# Altium footprint library Chip_kz85.PcbLib: 314 footprints (part 18 of 20)
Each footprint in its own frame and in the unit in brackets; x right, y up, seen from the top. Pads: shape width x height; smd on the part's side, far side on the other; paste and mask are expansions set on the pad; w line width, h text height; cw(c..) or ccw(c..) is an arc to the next point about the centre after c.
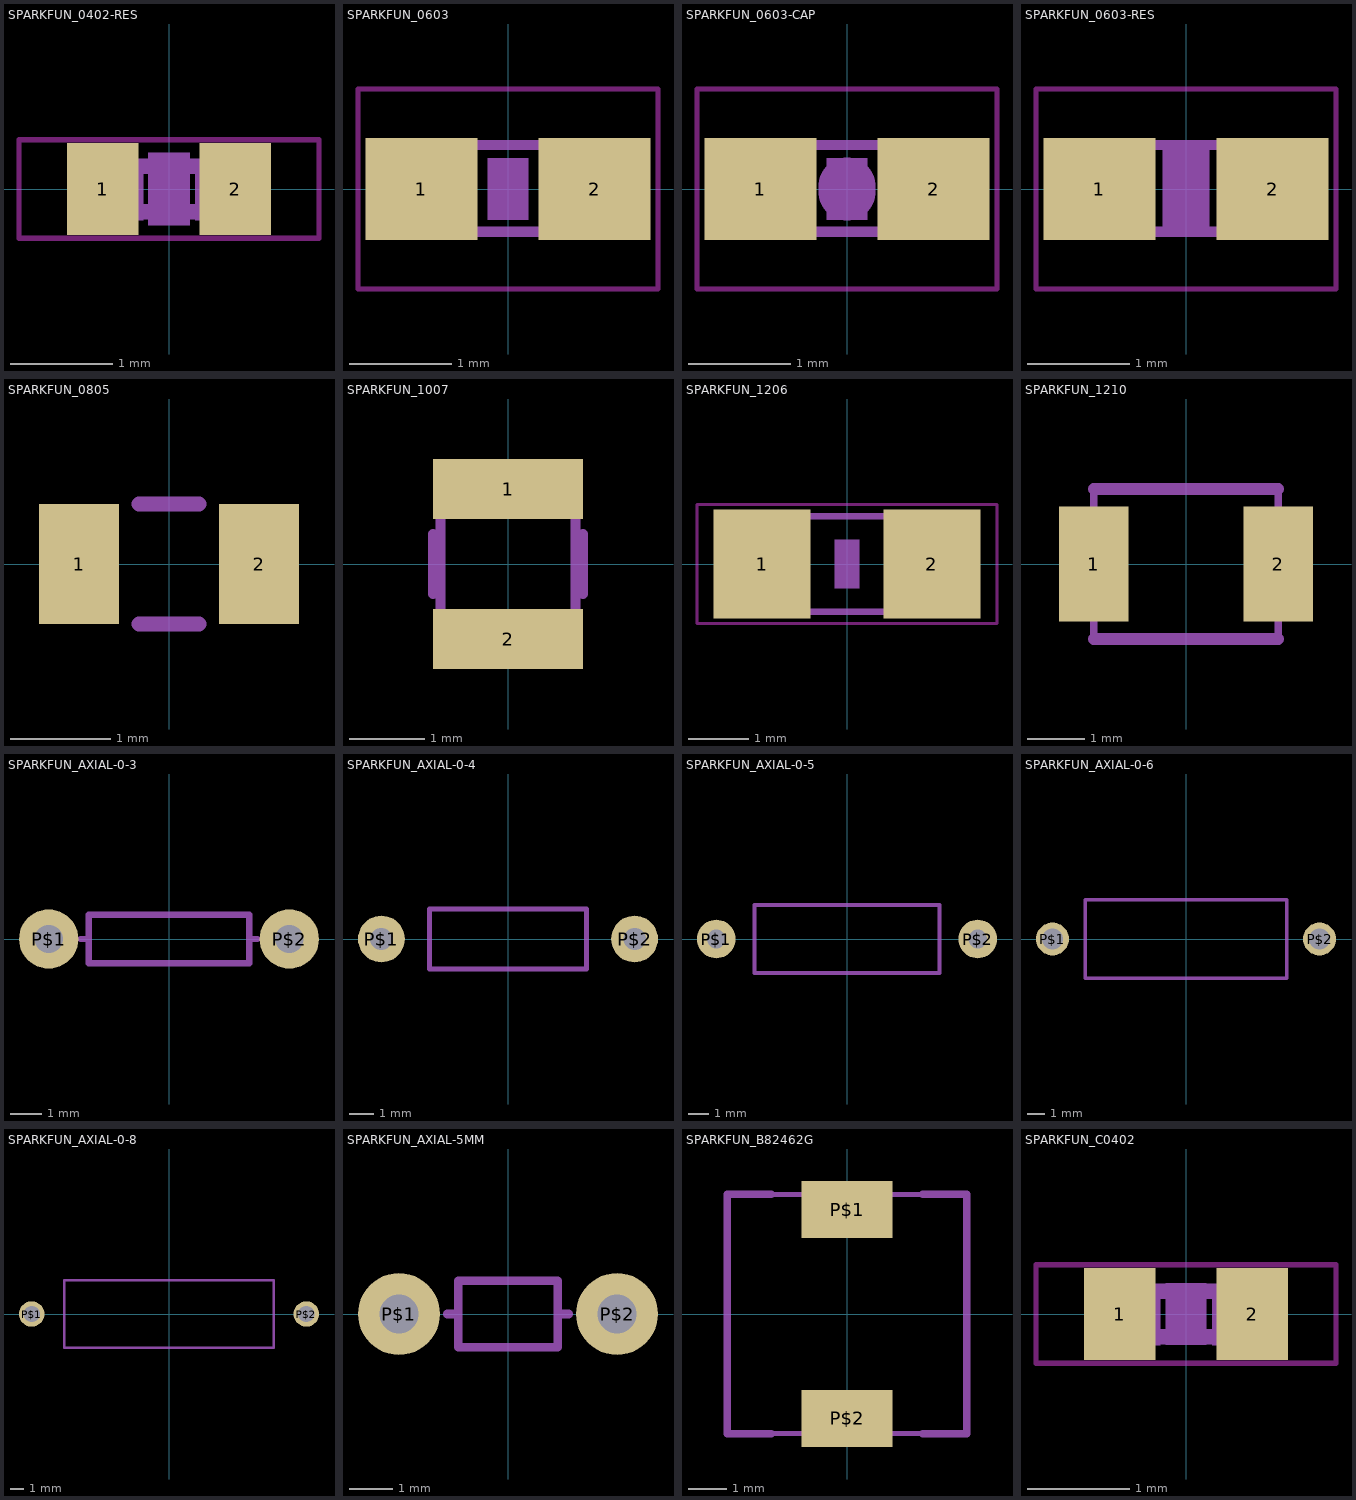
[diagram p17: the footprints below, top view; thin cyan lines are the x and y axes]

## SPARKFUN_0402-RES [mm]
pads (2):
  rect 0.7x0.9 smd: 1(-0.65,0) 2(0.65,0)
Top Layer keep-out:
  lines w0.051: -1.473,-0.483 1.473,-0.483 1.473,0.483 -1.473,0.483 -1.473,-0.483
Mechanical 3:
  region: -0.554,-0.305 -0.554,0.295 -0.254,0.295 -0.254,-0.305
  region: 0.259,-0.305 0.259,0.295 0.559,0.295 0.559,-0.305
  lines w0.152: -0.245,-0.224 0.245,-0.224 ; -0.245,0.224 0.245,0.224
Mechanical 7:
  region: -0.203,-0.356 -0.203,0.356 0.203,0.356 0.203,-0.356
Mechanical 11:
  region: -0.2,-0.3 -0.2,0.3 0.2,0.3 0.2,-0.3

## SPARKFUN_0603 [mm]
pads (2):
  rect 1.1x1 smd: 1(-0.85,0) 2(0.85,0)
Top Layer keep-out:
  lines w0.051: -1.473,-0.983 -1.473,0.983 1.473,0.983 1.473,-0.983 -1.473,-0.983
Mechanical 3:
  region: 0.33,-0.47 0.33,0.48 0.83,0.48 0.83,-0.47
  region: -0.838,-0.47 -0.838,0.48 -0.338,0.48 -0.338,-0.47
  lines w0.102: -0.356,-0.419 0.356,-0.419 ; -0.356,0.432 0.356,0.432
Mechanical 11:
  region: -0.2,-0.3 -0.2,0.3 0.2,0.3 0.2,-0.3

## SPARKFUN_0603-CAP [mm]
pads (2):
  rect 1.1x1 smd: 1(-0.85,0) 2(0.85,0)
Top Layer keep-out:
  lines w0.051: -1.473,-0.983 -1.473,0.983 1.473,0.983 1.473,-0.983 -1.473,-0.983
Mechanical 3:
  region: 0.33,-0.47 0.33,0.48 0.83,0.48 0.83,-0.47
  region: -0.838,-0.47 -0.838,0.48 -0.338,0.48 -0.338,-0.47
  lines w0.102: -0.356,-0.419 0.356,-0.419 ; -0.356,0.432 0.356,0.432
Mechanical 7:
  lines w0.559: 0,-0.03 0,0.03
Mechanical 11:
  region: -0.2,-0.3 -0.2,0.3 0.2,0.3 0.2,-0.3

## SPARKFUN_0603-RES [mm]
pads (2):
  rect 1.1x1 smd: 1(-0.85,0) 2(0.85,0)
Top Layer keep-out:
  lines w0.051: -1.473,-0.983 -1.473,0.983 1.473,0.983 1.473,-0.983 -1.473,-0.983
Mechanical 3:
  region: 0.33,-0.47 0.33,0.48 0.83,0.48 0.83,-0.47
  region: -0.838,-0.47 -0.838,0.48 -0.338,0.48 -0.338,-0.47
  lines w0.102: -0.356,-0.419 0.356,-0.419 ; -0.356,0.432 0.356,0.432
Mechanical 7:
  region: -0.229,-0.381 -0.229,0.381 0.229,0.381 0.229,-0.381
Mechanical 11:
  region: -0.2,-0.3 -0.2,0.3 0.2,0.3 0.2,-0.3

## SPARKFUN_0805 [mil]
pads (2):
  rect 31.5x47.24 smd: 1(-35.43,0) 2(35.43,0)
Mechanical 7:
  lines w6: -11.81,-23.62 11.81,-23.62 ; -11.81,23.62 11.81,23.62

## SPARKFUN_1007 [mm]
pads (2):
  rect 2x0.8 smd: 1(0,1) 2(0,-1)
Mechanical 3:
  lines w0.127: -0.9,-1.25 0.9,-1.25 0.9,1.25 -0.9,1.25 -0.9,-1.25
Mechanical 7:
  lines w0.127: -1,-0.4 -1,0.4 ; 1,-0.4 1,0.4

## SPARKFUN_1206 [mil]
pads (2):
  rect 62.99x70.87 smd: 1(-55.12,0) 2(55.12,0)
Top Layer keep-out:
  lines w2: -97.36,-38.7 97.36,-38.7 97.36,38.7 -97.36,38.7 -97.36,-38.7
Mechanical 3:
  region: -67,-33.5 -67,33.43 -37.47,33.43 -37.47,-33.5
  region: 37.47,-33.43 37.47,33.5 67,33.5 67,-33.43
  lines w4: -37.99,-30.98 37.99,-30.98 ; -37.99,30.98 37.99,30.98
Mechanical 11:
  region: -7.87,-15.75 -7.87,15.75 7.87,15.75 7.87,-15.75

## SPARKFUN_1210 [mm]
pads (2):
  rect 1.2x2 smd: 1(-1.6,0) 2(1.6,0)
Mechanical 3:
  lines w0.127: -1.6,-1.3 1.6,-1.3 1.6,1.3 -1.6,1.3 -1.6,-1.3
Mechanical 7:
  lines w0.203: -1.6,-1.3 1.6,-1.3 ; -1.6,1.3 1.6,1.3

## SPARKFUN_AXIAL-0-3 [mil]
pads (2):
  round 74 hole 35.43: P$1(-150,0) P$2(150,0)
Mechanical 7:
  lines w8: -110,0 -100,0 ; 110,0 100,0 ; -100,0 -100,-30 100,-30 100,0 ; -100,0 -100,30 100,30 100,0

## SPARKFUN_AXIAL-0-4 [mil]
pads (2):
  round 74 hole 35.43: P$1(-200,0) P$2(200,0)
Mechanical 7:
  lines w8: -124.02,-47.24 -124.02,47.24 124.02,47.24 124.02,-47.24 -124.02,-47.24

## SPARKFUN_AXIAL-0-5 [mil]
pads (2):
  round 74 hole 35.43: P$1(-250,0) P$2(250,0)
Mechanical 7:
  lines w8: -177.17,-64.96 -177.17,64.96 177.17,64.96 177.17,-64.96 -177.17,-64.96

## SPARKFUN_AXIAL-0-6 [mil]
pads (2):
  round 74 hole 47.24: P$1(-300,0) P$2(300,0)
Mechanical 7:
  lines w8: -226.38,-88.58 -226.38,88.58 226.38,88.58 226.38,-88.58 -226.38,-88.58

## SPARKFUN_AXIAL-0-8 [mil]
pads (2):
  round 74 hole 47.24: P$1(-400,0) P$2(400,0)
Mechanical 7:
  lines w8: -305.12,-98.43 -305.12,98.43 305.12,98.43 305.12,-98.43 -305.12,-98.43

## SPARKFUN_AXIAL-5MM [mil]
pads (2):
  round 74 hole 35.43: P$1(-98.43,0) P$2(98.43,0)
Mechanical 7:
  lines w8: -54.88,0 -44.88,0 ; 54.88,0 44.88,0 ; -44.88,0 -44.88,-30 44.88,-30 44.88,0 ; -44.88,0 -44.88,30 44.88,30 44.88,0

## SPARKFUN_B82462G [mil]
pads (2):
  rect 94.49x59.06 smd: P$1(0,108.27) P$2(0,-108.27)
Mechanical 3:
  lines w5: -124.02,-124.02 -124.02,124.02 124.02,124.02 124.02,-124.02 -124.02,-124.02
Mechanical 7:
  lines w8: -78.74,-124.02 -124.02,-124.02 -124.02,124.02 -78.74,124.02 ; 78.74,-124.02 124.02,-124.02 124.02,124.02 78.74,124.02

## SPARKFUN_C0402 [mm]
pads (2):
  rect 0.7x0.9 smd: 1(-0.65,0) 2(0.65,0)
Top Layer keep-out:
  lines w0.051: -1.473,-0.483 -1.473,0.483 1.473,0.483 1.473,-0.483 -1.473,-0.483
Mechanical 3:
  region: 0.259,-0.305 0.259,0.295 0.559,0.295 0.559,-0.305
  region: -0.554,-0.305 -0.554,0.295 -0.254,0.295 -0.254,-0.305
  lines w0.152: -0.245,-0.224 0.245,-0.224 ; -0.245,0.224 0.245,0.224
Mechanical 11:
  region: -0.2,-0.3 -0.2,0.3 0.2,0.3 0.2,-0.3